# EAGLE library part MAX13432 (library 1dah)
Full duplex RS285 interface
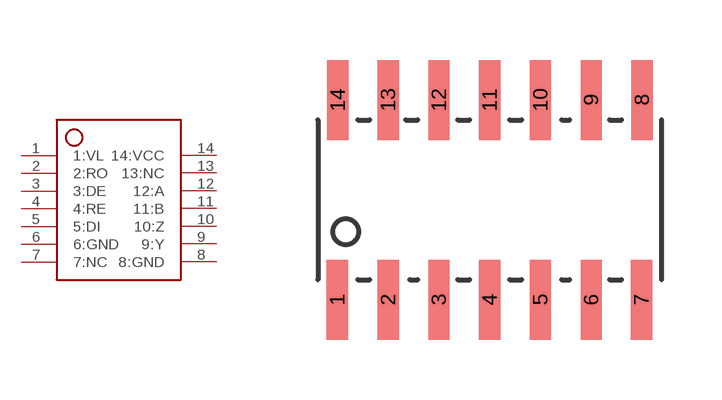
[diagram p40: symbol with the pads of SO14; footprint SO14]

Designator prefix -

## MAX13432  [SO14]
1  1:VL
2  2:RO
3  3:DE
4  4:RE
5  5:DI
6  6:GND
7  7:NC
8  8:GND
9  9:Y
10  10:Z
11  11:B
12  12:A
13  13:NC
14  14:VCC

## Footprint SO14 (pad centres in mm)
smd 0.53 x 2: 1 -3.81,-2.5; 2 -2.54,-2.5; 3 -1.27,-2.5; 4 0,-2.5; 5 1.27,-2.5; 6 2.54,-2.5; 7 3.8,-2.5; 8 3.81,2.5; 9 2.54,2.5; 10 1.27,2.5; 11 0,2.5; 12 -1.27,2.5; 13 -2.54,2.5; 14 -3.8,2.5